# EAGLE library part IH5341CPD (library 1A-meinLib)
Dual CMOS SWITCH MAXIM
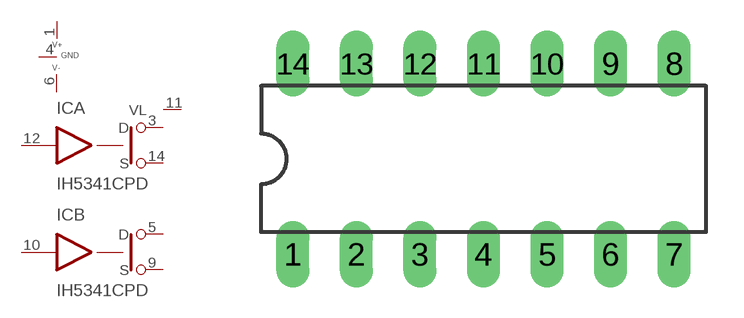
[diagram p57: symbol with the pads of DIL14; footprint DIL14]

Designator prefix IC; gates A=SWSPSTNI B=SWSPSTNI P=PWR+-GSS VL=VL_PIN

## IH5341CPD  [DIL14]
1  P:V+  pwr
3  A:D
4  P:GND  pwr
5  B:D
6  P:V-  pwr
9  B:S
10  B:IN  in
11  VL:VL  in
12  A:IN  in
14  A:S

## Footprint DIL14 (pad centres in mm)
Dual In Line Package
drill 0.813 long: 1 -7.62,-3.81; 2 -5.08,-3.81; 3 -2.54,-3.81; 4 0,-3.81; 5 2.54,-3.81; 6 5.08,-3.81; 7 7.62,-3.81; 8 7.62,3.81; 9 5.08,3.81; 10 2.54,3.81; 11 0,3.81; 12 -2.54,3.81; 13 -5.08,3.81; 14 -7.62,3.81